# EAGLE library part ISL84781-MUX (library Orlando)
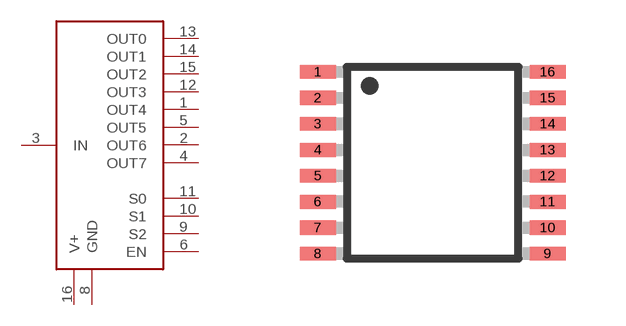
[diagram p11: symbol with the pads of TSSOP16; footprint TSSOP16]

Designator prefix -

## ISL84781-MUX  [TSSOP16]
1  OUT4
2  OUT6
3  IN
4  OUT7
5  OUT5
6  EN
8  GND
9  S2
10  S1
11  S0
12  OUT3
13  OUT0
14  OUT1
15  OUT2
16  V+

## Footprint TSSOP16 (pad centres in mm)
16-Lead Thin Shrink Small Outline Package [TSSOP] (RU-16) Source: 8x ADG1408_1409.pdf
smd 0.9 x 0.35: 1 -2.875,2.275; 2 -2.875,1.625; 3 -2.875,0.975; 4 -2.875,0.325; 5 -2.875,-0.325; 6 -2.875,-0.975; 7 -2.875,-1.625; 8 -2.875,-2.275; 9 2.875,-2.275; 10 2.875,-1.625; 11 2.875,-0.975; 12 2.875,-0.325; 13 2.875,0.325; 14 2.875,0.975; 15 2.875,1.625; 16 2.875,2.275